# Altium schematic symbol library DRV8837CDSGT.SchLib: 1 symbol
Pins are listed as number, name and electrical type; pins without a type are passive.

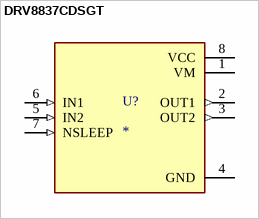
[diagram p0: symbol DRV8837CDSGT]

## DRV8837CDSGT
designator U?
12-V, 1-A H-bridge motor driver; MF: Texas Instruments; MP: DRV8837CDSGT; Value: *; Purchase-URL: https://pricing.snapeda.com/search/part/DRV8837CDSGT/?ref=eda; Check_prices: https://www.snapeda.com/parts/DRV8837CDSGT/Texas+Instruments/view-part/?ref=eda; Price: None; SnapEDA_Link: https://www.snapeda.com/parts/DRV8837CDSGT/Texas+Instruments/view-part/?ref=snap; Availability: In Stock; Package: WSON-8 Texas Instruments
footprint SON50P200X200X80-9N
pins: 1 VM (power), 2 OUT1 (out), 3 OUT2 (out), 4 GND (power), 5 IN2 (in), 6 IN1 (in), 7 NSLEEP (in), 8 VCC (power)